# Altium schematic symbol library CRG0805F3K0.SchLib: 1 symbol
Pins are listed as number, name and electrical type; pins without a type are passive.

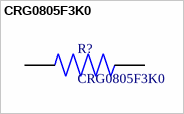
[diagram p0: symbol CRG0805F3K0]

## CRG0805F3K0
designator R?
RES SMD 3K OHM 1% 1/8W 0805; Value: 3K; Tolerance: ±1%
footprint CRG0805F3K0
pins: 1, 1, 2, 2